# Altium schematic symbol library Schlib.SchLib: 6 symbols
Pins are listed as number, name and electrical type; pins without a type are passive.

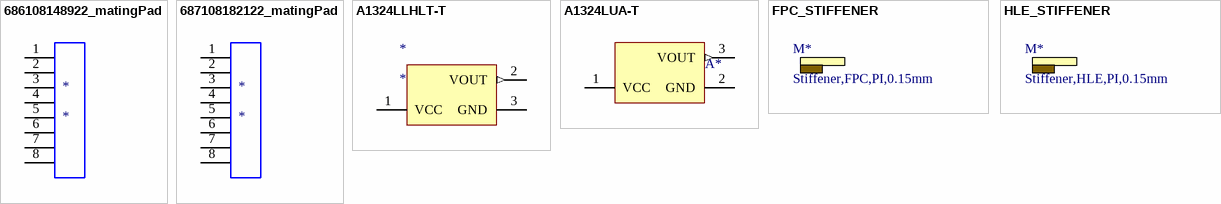
[diagram p0: symbols 686108148922_matingPad to HLE_STIFFENER]

## 686108148922_matingPad
designator *
footprint 686108148922_matingPad
pins: 1, 2, 3, 4, 5, 6, 7, 8

## 687108182122_matingPad
designator *
footprint 687108182122_MATINGPAD
pins: 1, 2, 3, 4, 5, 6, 7, 8

## A1324LLHLT-T
designator *
Hall Effect Sensor Monolithic 5V T/R; Manufacturer: Allegro MicroSystems; Manufacturer Part Number: A1324LLHLT-T; Min Supply Voltage: 4.5V; Max Supply Voltage: 5.5V; Operating Supply Current: 9mA; Max Output Current: 10mA; Output Type: Digital; Supplier 1: Digi-Key; RoHS: Yes; Category: Magnetic Sensors; Stock 1: 38732; Pricing 1: 1=2.00000, 5=1.89000, 10=1.62000, 25=1.29600, 50=1.18800, 100=1.08000, 500=0.94500, 1000=0.83700 (USD); Mount: Surface Mount; Case/Package: SOT-23; Number of Pins: 3; Min Operating Temperature: -40°C; Max Operating Temperature: 150°C; Operating Supply Voltage: 5V; Packaging: Tape and Reel; Package Quantity: 3000; Output Current: 10mA; Max Supply Current: 9mA; Length: 2.98mm; Height: 0.95mm; Width: 1.91mm; Radiation Hardening: No; ComponentLink1URL: https://datasheet.ciiva.com/26927/getdatasheetpartid-757427-26927909.pdf?src-supplier=Verical; ComponentLink1Description: https://datasheet.ciiva.com/26927/getdatasheetpartid-757427-26927909.pdf?src-supplier=Verical; Supplier Part Number 1: 620-1402-1-ND
footprint A1324LLHLT-T
pins: 1 VCC (power) "Input power supply; tie to GND with  bypass capacitor", 2 VOUT (out) "Output signal; also used for  programming", 3 GND (power) "Ground"

## A1324LUA-T
designator A*  (value not drawn)
ALLEGRO MICROSYSTEMS - A1324LUA-T - Hall Effect Sensor, Linear, 10 mA, SIP, 3 Pins, 4.5 V, 5.5 V; Output Current: 10mA; Operating Supply Voltage: 5V; Max Supply Current: 9mA; Max Supply Voltage: 5.5V; Min Supply Voltage: 4.5V; Output Type: Digital; Supplier 1: Digi-Key; Manufacturer: Allegro MicroSystems; Manufacturer Part Number: A1324LUA-T; RoHS: Yes; Category: Sensors; Stock 1: 15828; Pricing 1: 1=2.00000, 5=1.89000, 10=1.62000, 25=1.29600, 50=1.18800, 100=1.08000, 500=0.94500, 1000=0.83700, 5000=0.78300 (USD); Mount: Through Hole; Case/Package: SIP; Number of Pins: 3; ComponentLink1URL: https://datasheet.ciiva.com/15099/getdatasheetpartid-367817-15099484.pdf?src-supplier=Verical; ComponentLink1Description: https://datasheet.ciiva.com/15099/getdatasheetpartid-367817-15099484.pdf?src-supplier=Verical; ComponentLink2URL: https://datasheet.ciiva.com/22624/1538021-22624823.pdf?src-supplier=Element14; ComponentLink2Description: https://datasheet.ciiva.com/22624/1538021-22624823.pdf?src-supplier=Element14; ComponentLink3URL: https://datasheet.ciiva.com/14094/a1324-26-eng-tds-14094701.pdf?src-supplier=Distrelec; ComponentLink3Description: https://datasheet.ciiva.com/14094/a1324-26-eng-tds-14094701.pdf?src-supplier=Distrelec; Package Quantity: 4000; Packaging: Bag; Operating Supply Current: 9mA; Max Output Current: 10mA; Length: 4.09mm; Height: 3.02mm; Width: 1.52mm; Radiation Hardening: No; REACH SVHC: No SVHC; Supplier Part Number 1: 620-1432-ND; Max Operating Temperature: 150°C; Min Operating Temperature: -40°C
footprint A1324LUA-T
pins: 1 VCC (power) "Input power supply; tie to GND with  bypass capacitor", 2 GND (power) "Ground", 3 VOUT (out) "Output signal; also used for  programming"

## FPC_STIFFENER
designator M*, comment Stiffener,FPC,PI,0.15mm  (no BOM)
MECH,Stiffener,IMTM-PCB03_04,FPC; CreatedBy: A. Hadi
footprint FPC_STIFFENER

## HLE_STIFFENER
designator M*, comment Stiffener,HLE,PI,0.15mm  (no BOM)
MECH,Stiffener,IMTM-PCB03_04,HLE; CreatedBy: A. Hadi
footprint HLE_stiffener